# Altium schematic symbol library con-phoenix-smkdsp.SCHLIB: 14 symbols
Pins are listed as number, name and electrical type; pins without a type are passive.

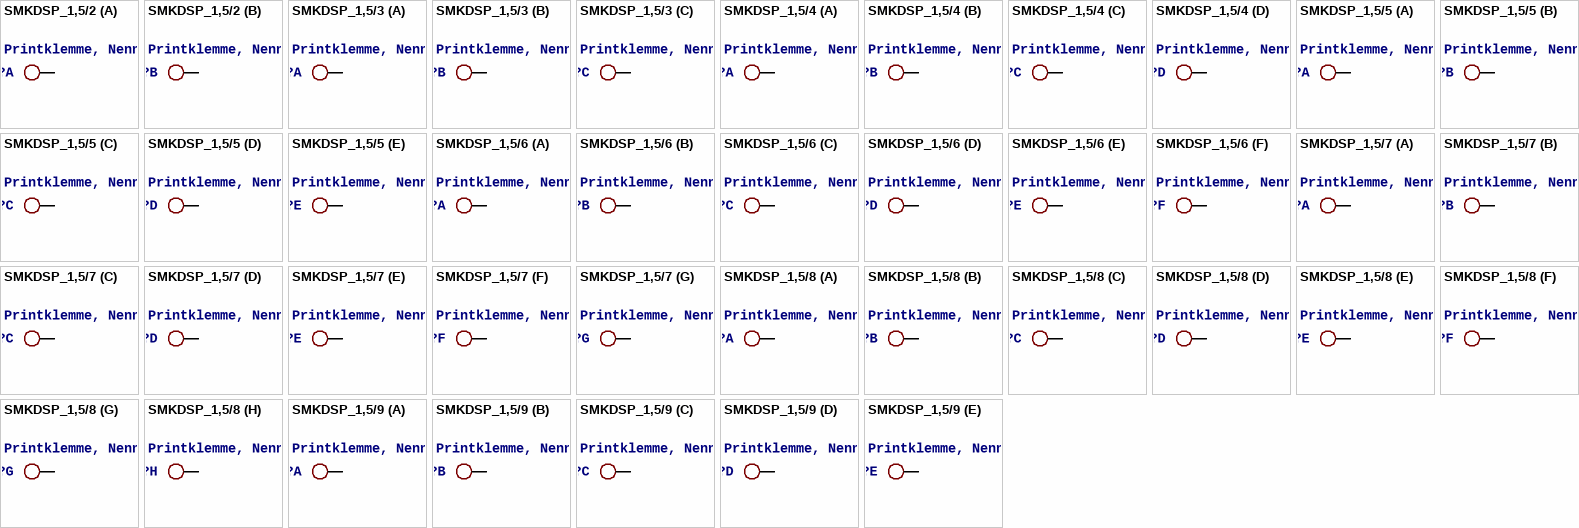
[diagram p0: symbols SMKDSP_1,5/2 to SMKDSP_1,5/9]

## SMKDSP_1,5/2
designator X?, comment Printklemme, Nennstrom: 17,5 A, Bemessungsspannung: 250 V, Raster: 5,0 mm   Source: http://eshop.phoenixcontact.de .. 1733415.pdf
MPN: 1733570; MF: FARNELL; OC_FARNELL: 3041244; OC_NEWARK: 69C8588
footprint SMKDSP_1,5/2
part A pins: 1 KL
part B pins: 2 KL

## SMKDSP_1,5/3
designator X?, comment Printklemme, Nennstrom: 17,5 A, Bemessungsspannung: 250 V, Raster: 5,0 mm   Source: http://eshop.phoenixcontact.de .. 1733415.pdf
MPN: 1733583; MF: FARNELL; OC_FARNELL: 3041256; OC_NEWARK: 71C4130
footprint SMKDSP_1,5/3
part A pins: 1 KL
part B pins: 2 KL
part C pins: 3 KL

## SMKDSP_1,5/4
designator X?, comment Printklemme, Nennstrom: 17,5 A, Bemessungsspannung: 250 V, Raster: 5,0 mm   Source: http://eshop.phoenixcontact.de .. 1733415.pdf
MPN: 1733596; MF: FARNELL; OC_FARNELL: 3041268; OC_NEWARK: 71C4131
footprint SMKDSP_1,5/4
part A pins: 1 KL
part B pins: 2 KL
part C pins: 3 KL
part D pins: 4 KL

## SMKDSP_1,5/5
designator X?, comment Printklemme, Nennstrom: 17,5 A, Bemessungsspannung: 250 V, Raster: 5,0 mm   Source: http://eshop.phoenixcontact.de .. 1733415.pdf
OC_FARNELL: unknown; OC_NEWARK: unknown
footprint SMKDSP_1,5/5
part A pins: 1 KL
part B pins: 2 KL
part C pins: 3 KL
part D pins: 4 KL
part E pins: 5 KL

## SMKDSP_1,5/6
designator X?, comment Printklemme, Nennstrom: 17,5 A, Bemessungsspannung: 250 V, Raster: 5,0 mm   Source: http://eshop.phoenixcontact.de .. 1733415.pdf
MPN: 1733619; MF: FARNELL; OC_FARNELL: 3041270; OC_NEWARK: 71C4132
footprint SMKDSP_1,5/6
part A pins: 1 KL
part B pins: 2 KL
part C pins: 3 KL
part D pins: 4 KL
part E pins: 5 KL
part F pins: 6 KL

## SMKDSP_1,5/7
designator X?, comment Printklemme, Nennstrom: 17,5 A, Bemessungsspannung: 250 V, Raster: 5,0 mm   Source: http://eshop.phoenixcontact.de .. 1733415.pdf
OC_FARNELL: unknown; OC_NEWARK: unknown
footprint SMKDSP_1,5/7
part A pins: 1 KL
part B pins: 2 KL
part C pins: 3 KL
part D pins: 4 KL
part E pins: 5 KL
part F pins: 6 KL
part G pins: 7 KL

## SMKDSP_1,5/8
designator X?, comment Printklemme, Nennstrom: 17,5 A, Bemessungsspannung: 250 V, Raster: 5,0 mm   Source: http://eshop.phoenixcontact.de .. 1733415.pdf
MPN: 1733635; MF: FARNELL; OC_FARNELL: 3041281; OC_NEWARK: 71C4133
footprint SMKDSP_1,5/8
part A pins: 1 KL
part B pins: 2 KL
part C pins: 3 KL
part D pins: 4 KL
part E pins: 5 KL
part F pins: 6 KL
part G pins: 7 KL
part H pins: 8 KL

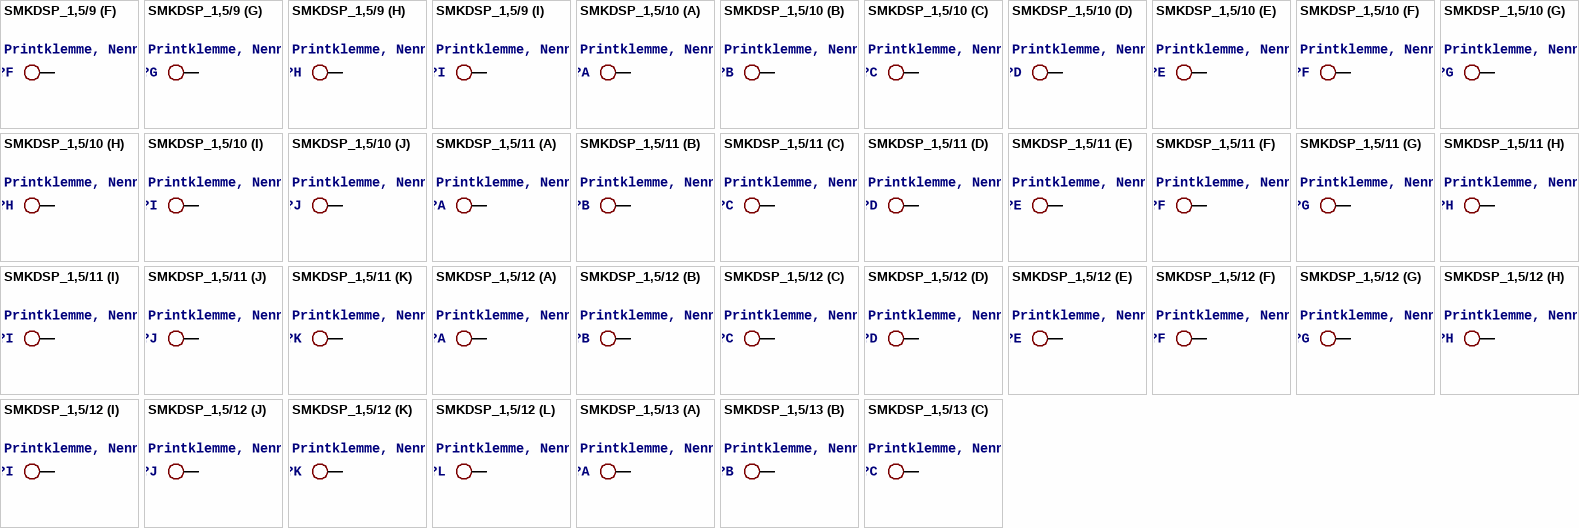
[diagram p1: symbols SMKDSP_1,5/9 to SMKDSP_1,5/13]

## SMKDSP_1,5/9
designator X?, comment Printklemme, Nennstrom: 17,5 A, Bemessungsspannung: 250 V, Raster: 5,0 mm   Source: http://eshop.phoenixcontact.de .. 1733415.pdf
OC_FARNELL: unknown; OC_NEWARK: unknown
footprint SMKDSP_1,5/9
part A pins: 1 KL
part B pins: 2 KL
part C pins: 3 KL
part D pins: 4 KL
part E pins: 5 KL
part F pins: 6 KL
part G pins: 7 KL
part H pins: 8 KL
part I pins: 9 KL

## SMKDSP_1,5/10
designator X?, comment Printklemme, Nennstrom: 17,5 A, Bemessungsspannung: 250 V, Raster: 5,0 mm   Source: http://eshop.phoenixcontact.de .. 1733415.pdf
MPN: 1733651; MF: FARNELL; OC_FARNELL: 3041293; OC_NEWARK: 71C4134
footprint SMKDSP_1,5/10
part A pins: 1 KL
part B pins: 2 KL
part C pins: 3 KL
part D pins: 4 KL
part E pins: 5 KL
part F pins: 6 KL
part G pins: 7 KL
part H pins: 8 KL
part I pins: 9 KL
part J pins: 10 KL

## SMKDSP_1,5/11
designator X?, comment Printklemme, Nennstrom: 17,5 A, Bemessungsspannung: 250 V, Raster: 5,0 mm   Source: http://eshop.phoenixcontact.de .. 1733415.pdf
OC_FARNELL: unknown; OC_NEWARK: unknown
footprint SMKDSP_1,5/11
part A pins: 1 KL
part B pins: 2 KL
part C pins: 3 KL
part D pins: 4 KL
part E pins: 5 KL
part F pins: 6 KL
part G pins: 7 KL
part H pins: 8 KL
part I pins: 9 KL
part J pins: 10 KL
part K pins: 11 KL

## SMKDSP_1,5/12
designator X?, comment Printklemme, Nennstrom: 17,5 A, Bemessungsspannung: 250 V, Raster: 5,0 mm   Source: http://eshop.phoenixcontact.de .. 1733415.pdf
OC_FARNELL: unknown; OC_NEWARK: unknown
footprint SMKDSP_1,5/12
part A pins: 1 KL
part B pins: 2 KL
part C pins: 3 KL
part D pins: 4 KL
part E pins: 5 KL
part F pins: 6 KL
part G pins: 7 KL
part H pins: 8 KL
part I pins: 9 KL
part J pins: 10 KL
part K pins: 11 KL
part L pins: 12 KL

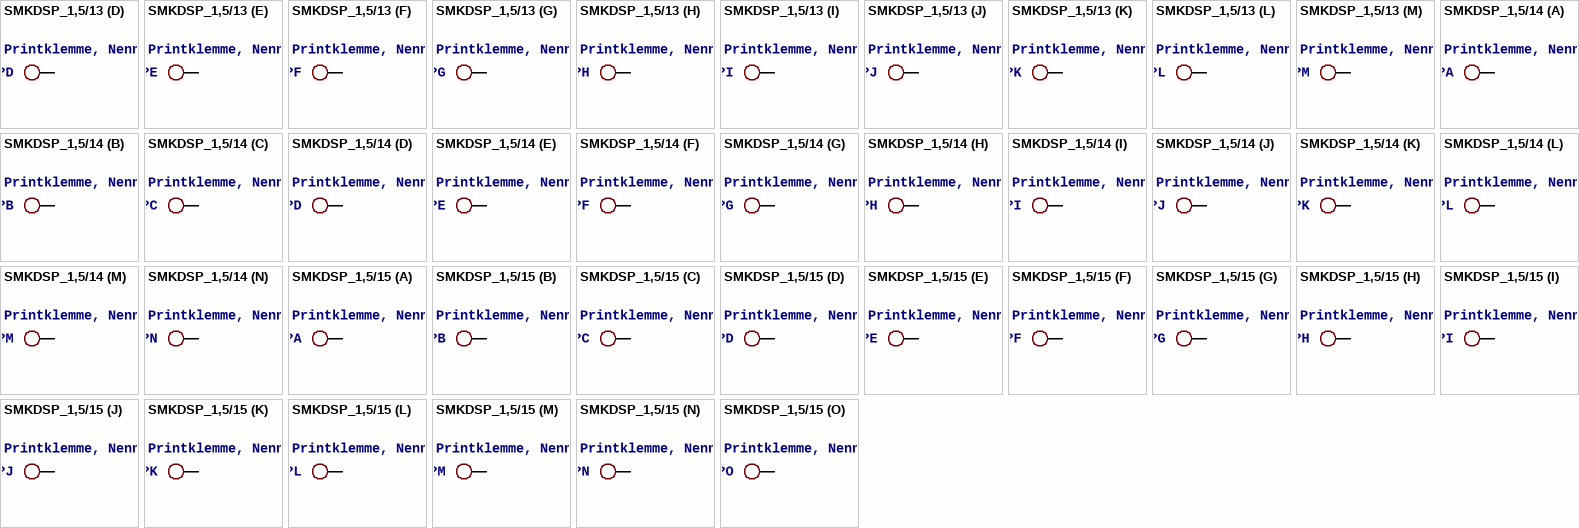
[diagram p2: symbols SMKDSP_1,5/13 to SMKDSP_1,5/15]

## SMKDSP_1,5/13
designator X?, comment Printklemme, Nennstrom: 17,5 A, Bemessungsspannung: 250 V, Raster: 5,0 mm   Source: http://eshop.phoenixcontact.de .. 1733415.pdf
OC_FARNELL: unknown; OC_NEWARK: unknown
footprint SMKDSP_1,5/13
part A pins: 1 KL
part B pins: 2 KL
part C pins: 3 KL
part D pins: 4 KL
part E pins: 5 KL
part F pins: 6 KL
part G pins: 7 KL
part H pins: 8 KL
part I pins: 9 KL
part J pins: 10 KL
part K pins: 11 KL
part L pins: 12 KL
part M pins: 13 KL

## SMKDSP_1,5/14
designator X?, comment Printklemme, Nennstrom: 17,5 A, Bemessungsspannung: 250 V, Raster: 5,0 mm   Source: http://eshop.phoenixcontact.de .. 1733415.pdf
OC_FARNELL: unknown; OC_NEWARK: unknown
footprint SMKDSP_1,5/14
part A pins: 1 KL
part B pins: 2 KL
part C pins: 3 KL
part D pins: 4 KL
part E pins: 5 KL
part F pins: 6 KL
part G pins: 7 KL
part H pins: 8 KL
part I pins: 9 KL
part J pins: 10 KL
part K pins: 11 KL
part L pins: 12 KL
part M pins: 13 KL
part N pins: 14 KL

## SMKDSP_1,5/15
designator X?, comment Printklemme, Nennstrom: 17,5 A, Bemessungsspannung: 250 V, Raster: 5,0 mm   Source: http://eshop.phoenixcontact.de .. 1733415.pdf
OC_FARNELL: unknown; OC_NEWARK: unknown
footprint SMKDSP_1,5/15
part A pins: 1 KL
part B pins: 2 KL
part C pins: 3 KL
part D pins: 4 KL
part E pins: 5 KL
part F pins: 6 KL
part G pins: 7 KL
part H pins: 8 KL
part I pins: 9 KL
part J pins: 10 KL
part K pins: 11 KL
part L pins: 12 KL
part M pins: 13 KL
part N pins: 14 KL
part O pins: 15 KL